# EAGLE library part 6871XX14522_68713414522 (library Wurth_Connectors_WR-FPC)
WR-FPC 0.50 mm SMT ZIF Horizontal Bottom Contact KIND PROPERTIES Pitch 0.5 mm MATERIAL PROPERTIES Insulator Material LCP Contact Material Phosphor Bronze Contact Plating 100 (µ") Tin over 50 (µ") Nickel Contact Type Stamped Solder Tabs Brass <https://www.we-online.com/catalog/media/o32870v209%20Family_WR-FPC_6871xx14522.jpg> Details see: https://www.we-online.com/catalog/en/FPC_0_5_SMT_ZIF_HORIZONTAL_BOTTOM_CONTACT_6871XX14522/ Updated by Ella Wu 2020-08-26 2020(C) Wurth Elektronik
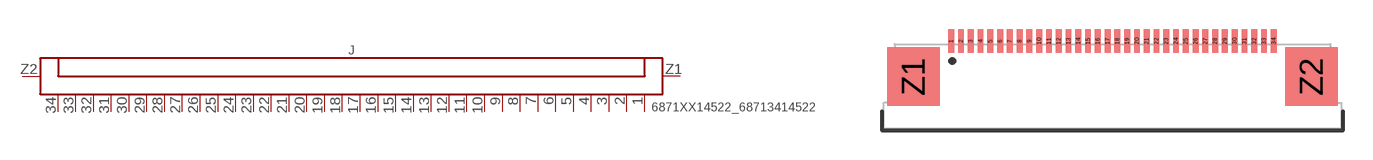
[diagram p37: symbol with the pads of 68713414522; footprint 68713414522]

Designator prefix J

## 6871XX14522_68713414522 (CONTACT-RESISTANCE: 20mOhm; DATASHEET-URL: https://www.we-online.com/catalog/datasheet/68713414522.pdf; IR: 0.5A; L: 23.4mm; PACKAGING: Tape and Reel; PART-NUMBER: 68713414522; PINS: 34; PITCH: 0.5mm; TYPE: Horizontal; VALUE: 68713414522; WORKING-VOLTAGE: 50V(AC))  [68713414522]
1  1  pas
2  2  pas
3  3  pas
4  4  pas
5  5  pas
6  6  pas
7  7  pas
8  8  pas
9  9  pas
10  10  pas
11  11  pas
12  12  pas
13  13  pas
14  14  pas
15  15  pas
16  16  pas
17  17  pas
18  18  pas
19  19  pas
20  20  pas
21  21  pas
22  22  pas
23  23  pas
24  24  pas
25  25  pas
26  26  pas
27  27  pas
28  28  pas
29  29  pas
30  30  pas
31  31  pas
32  32  pas
33  33  pas
34  34  pas
Z1  Z1  pas
Z2  Z2  pas

## Footprint 68713414522 (pad centres in mm)
WR-FPC 0.50 mm SMT ZIF Horizontal Bottom Contact , 34 Pins
smd 0.3 x 1.2: 1 -8.25,2.31; 2 -7.75,2.31; 3 -7.25,2.31; 4 -6.75,2.31; 5 -6.25,2.31; 6 -5.75,2.31; 7 -5.25,2.31; 8 -4.75,2.31; 9 -4.25,2.31; 10 -3.75,2.31; 11 -3.25,2.31; 12 -2.75,2.31; 13 -2.25,2.31; 14 -1.75,2.31; 15 -1.25,2.31; 16 -0.75,2.31; 17 -0.25,2.31; 18 0.25,2.31; 19 0.75,2.31; 20 1.25,2.31; 21 1.75,2.31; 22 2.25,2.31; 23 2.75,2.31; 24 3.25,2.31; 25 3.75,2.31; 26 4.25,2.31; 27 4.75,2.31; 28 5.25,2.31; 29 5.75,2.31; 30 6.25,2.31; 31 6.75,2.31; 32 7.25,2.31; 33 7.75,2.31; 34 8.25,2.31
smd 2.7 x 3: Z1 -10.18,0.49; Z2 10.18,0.49